# EAGLE library part CC-PRO128 (library Conrad)
C-Control-Pro 128 part number: 19 82 19 - 93
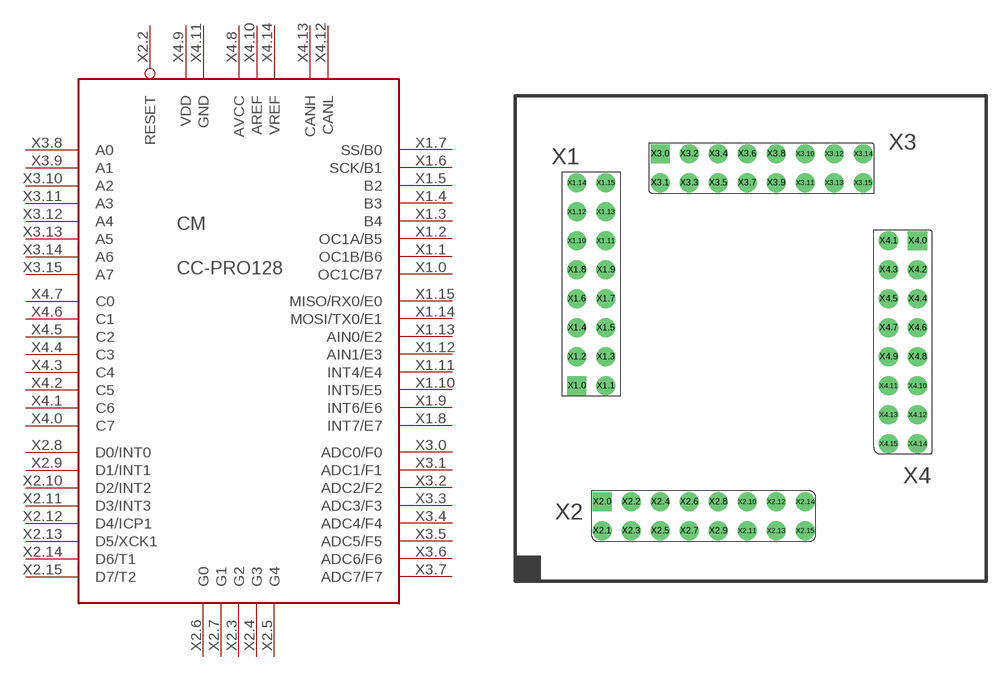
[diagram p0: symbol with the pads of C_PRO128; footprint C_PRO128]

Designator prefix CM

## CC-PRO128  [C_PRO128]
X1.0  OC1C/B7
X1.1  OC1B/B6
X1.2  OC1A/B5
X1.3  B4
X1.4  B3
X1.5  B2
X1.6  SCK/B1
X1.7  SS/B0
X1.8  INT7/E7
X1.9  INT6/E6
X1.10  INT5/E5
X1.11  INT4/E4
X1.12  AIN1/E3
X1.13  AIN0/E2
X1.14  MOSI/TX0/E1
X1.15  MISO/RX0/E0
X2.2  RESET  in
X2.3  G2
X2.4  G3
X2.5  G4
X2.6  G0
X2.7  G1
X2.8  D0/INT0
X2.9  D1/INT1
X2.10  D2/INT2
X2.11  D3/INT3
X2.12  D4/ICP1
X2.13  D5/XCK1
X2.14  D6/T1
X2.15  D7/T2
X3.0  ADC0/F0
X3.1  ADC1/F1
X3.2  ADC2/F2
X3.3  ADC3/F3
X3.4  ADC4/F4
X3.5  ADC5/F5
X3.6  ADC6/F6
X3.7  ADC7/F7
X3.8  A0
X3.9  A1
X3.10  A2
X3.11  A3
X3.12  A4
X3.13  A5
X3.14  A6
X3.15  A7
X4.0  C7
X4.1  C6
X4.2  C5
X4.3  C4
X4.4  C3
X4.5  C2
X4.6  C1
X4.7  C0
X4.8  AVCC  pwr
X4.9  VDD  pwr
X4.10  AREF  pwr
X4.11  GND  pwr
X4.12  CANL
X4.13  CANH
X4.14  VREF  pwr

## Footprint C_PRO128 (pad centres in mm)
drill 0.8 pad 1.676 square: X1.0 -14.605,-5.397; X2.0 -12.383,-15.557; X3.0 -7.303,14.922; X4.0 15.24,7.303
drill 0.8 pad 1.676 round: X1.1 -12.065,-5.397; X1.2 -14.605,-2.857; X1.3 -12.065,-2.857; X1.4 -14.605,-0.318; X1.5 -12.065,-0.318; X1.6 -14.605,2.223; X1.7 -12.065,2.223; X1.8 -14.605,4.763; X1.9 -12.065,4.763; X1.10 -14.605,7.303; X1.11 -12.065,7.303; X1.12 -14.605,9.842; X1.13 -12.065,9.842; X1.14 -14.605,12.383; X1.15 -12.065,12.383; X2.1 -12.383,-18.098; X2.2 -9.842,-15.557; X2.3 -9.842,-18.098; X2.4 -7.303,-15.557; X2.5 -7.303,-18.098; X2.6 -4.763,-15.557; X2.7 -4.763,-18.098; X2.8 -2.223,-15.557; X2.9 -2.223,-18.098; X2.10 0.318,-15.557; X2.11 0.318,-18.098; X2.12 2.857,-15.557; X2.13 2.857,-18.098; X2.14 5.397,-15.557; X2.15 5.397,-18.098; X3.1 -7.303,12.383; X3.2 -4.763,14.922; X3.3 -4.763,12.383; X3.4 -2.223,14.922; X3.5 -2.223,12.383; X3.6 0.318,14.922; X3.7 0.318,12.383; X3.8 2.857,14.922; X3.9 2.857,12.383; X3.10 5.397,14.922; X3.11 5.397,12.383; X3.12 7.938,14.922; X3.13 7.938,12.383; X3.14 10.477,14.922; X3.15 10.477,12.383; X4.1 12.7,7.303; X4.2 15.24,4.763; X4.3 12.7,4.763; X4.4 15.24,2.223; X4.5 12.7,2.223; X4.6 15.24,-0.318; X4.7 12.7,-0.318; X4.8 15.24,-2.857; X4.9 12.7,-2.857; X4.10 15.24,-5.397; X4.11 12.7,-5.397; X4.12 15.24,-7.938; X4.13 12.7,-7.938; X4.14 15.24,-10.477; X4.15 12.7,-10.477